# Altium footprint library bzq2142.PcbLib: 22 footprints (part 1 of 2)
Each footprint in its own frame and in the unit in brackets; x right, y up, seen from the top. Pads: shape width x height; smd on the part's side, far side on the other; paste and mask are expansions set on the pad; w line width, h text height; cw(c..) or ccw(c..) is an arc to the next point about the centre after c.
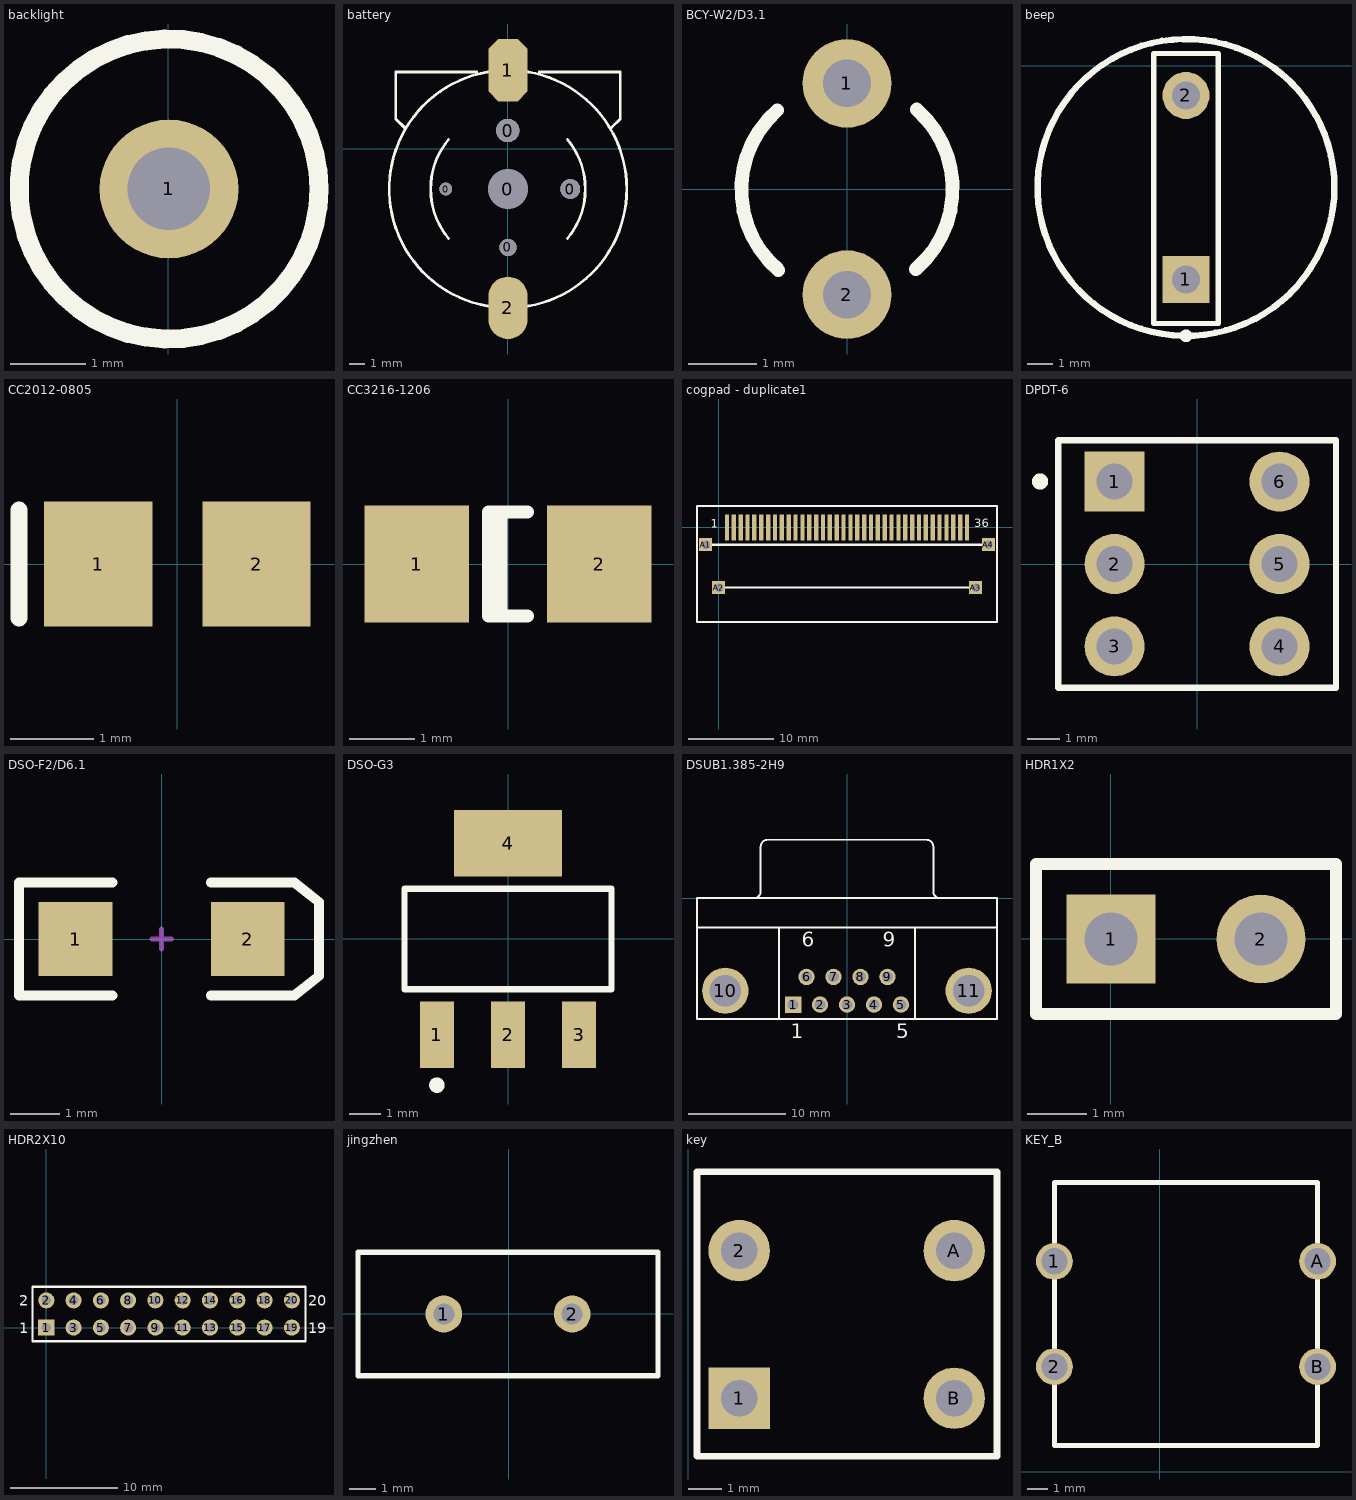
[diagram p0: the footprints below, top view; thin cyan lines are the x and y axes]

## backlight [mm]
height 6.35
pads (1):
  round 1.85 hole 1.1: 1(0.009,2.5)
Top Overlay:
  circle w0.254: c0.009,2.5 r2

## battery [mm]
pads (7):
  round 0.813 hole 0.813: 0(-3.979,-2.576)
  round 1.5 hole 1.5: 0(-0.016,1.174)
  round 1.1 hole 1.1: 0(0.009,-6.326)
  round 2.54 hole 2.54: 0(0.009,-2.576)
  round 1.27 hole 1.27: 0(3.997,-2.576)
  oct 2.5x4 smd: 1(0.009,5.044)
  oval 2.5x4 smd: 2(0.009,-10.196)
Top Overlay:
  lines w0.178: -6.616,1.349 -7.191,1.924 -7.191,4.924 -1.991,4.924 ; -3.803,-5.748 cw(c0.009,-2.576) -3.801,0.599 ; -0.824,-10.15 cw(c0.009,-2.576) -0.824,4.999 ; 0.842,-10.15 ccw(c0.009,-2.576) 7.629,-2.576 ccw(c0.009,-2.576) 0.842,4.999 ; 2.009,4.924 7.209,4.924 7.209,1.924 6.609,1.324 ; 3.821,-5.748 ccw(c0.009,-2.576) 3.824,0.594

## BCY-W2/D3.1 [mm] "Crystal, Thru-Hole; 2 Leads; Body 3.1 x 8.2 mm (Dia.xH)"
pads (2):
  round 1.3 hole 0.7: 1(0,1.55) 2(0,-1.55)
Top Overlay:
  lines w0.2: -1.022,1.155 ccw(c0,-0.01) -1.006,-1.189 ; 1.006,-1.179 ccw(c0,0) 1.022,1.165

## beep [mm]
height 9
pads (2):
  rect 1.85x1.85 hole 1.1: 1(14.213,-8.409)
  round 1.85 hole 1.1: 2(14.213,-1.17)
Top Overlay:
  circle w0.254: c14.213,-4.79 r5.842
  circle w0.25: c14.214,-10.63 r0.125
  lines w0.2: 12.943,-10.149 15.483,-10.149 15.483,-1.589 15.483,0.481 12.943,0.481 12.943,-1.589 12.943,-10.149

## CC2012-0805 [mm] "Chip Capacitor; Body 2.0 x 1.2 mm (LxW typ)"
height 1.1
pads (2):
  rect 1.3x1.5 smd: 1(-0.95,0) 2(0.95,0)
Top Overlay:
  lines w0.2: -1.9,-0.65 -1.9,0.65

## CC3216-1206 [mm] "Chip Capacitor; Body 3.2 x 1.6 mm (LxW typ)"
height 1.35
pads (2):
  rect 1.6x1.8 smd: 1(-1.4,0) 2(1.4,0)
Top Overlay:
  lines w0.2: -0.11,-0.8 -0.11,0.8 ; 0.3,-0.8 -0.3,-0.8 -0.3,0.8 0.3,0.8

## cogpad - duplicate1 [mm]
pads (40):
  rect 0.5x3 smd: 1(0.942,-0.045) 2(1.742,-0.045) 3(2.542,-0.045) 4(3.342,-0.045) 5(4.142,-0.045) 6(4.942,-0.045) 7(5.742,-0.045) 8(6.542,-0.045) 9(7.342,-0.045) 10(8.142,-0.045) 11(8.942,-0.045) 12(9.742,-0.045) 13(10.542,-0.045) 14(11.342,-0.045) 15(12.142,-0.045) 16(12.942,-0.045) 17(13.742,-0.045) 18(14.542,-0.045) 19(15.342,-0.045) 20(16.142,-0.045) 21(16.942,-0.045) 22(17.742,-0.045) 23(18.542,-0.045) 24(19.342,-0.045) 25(20.142,-0.045) 26(20.942,-0.045) 27(21.742,-0.045) 28(22.542,-0.045) 29(23.342,-0.045) 30(24.142,-0.045) 31(24.942,-0.045) 32(25.742,-0.045) 33(26.542,-0.045) 34(27.342,-0.045) 35(28.142,-0.045) 36(28.942,-0.045)
  rect 1.524x1.524 hole 1: A1(-1.553,-2.044) A2(-0.04,-7.044) A3(29.96,-7.044) A4(31.447,-2.044)
Top Overlay:
  lines w0.254: -1.553,-2.044 31.447,-2.044 ; -0.04,-7.044 29.96,-7.044 ; -2.553,-11.044 32.444,-11.044 32.444,2.456 29.946,2.456 29.193,2.456 0.689,2.456 -0.276,2.456 -2.553,2.456 -2.553,-11.044
  text "1" at -0.925,-0.04 h1
  text "36" at 29.801,0.02 h1

## DPDT-6 [mm] "Double-Pole, Double-Throw Switch; 6 Leads"
height 1.5
pads (6):
  rect 1.85x1.85 hole 1.1: 1(-2.54,2.54)
  round 1.85 hole 1.1: 2(-2.54,0) 3(-2.54,-2.54) 4(2.54,-2.54) 5(2.54,0) 6(2.54,2.54)
Top Overlay:
  circle w0.25: c-4.836,2.541 r0.125
  lines w0.2: -4.28,-3.81 4.28,-3.81 4.28,3.81 -4.28,3.81 -4.28,-3.81

## DSO-F2/D6.1 [mm] "SMT LED; 2 Flat Leads"
pads (2):
  rect 1.5x1.5 smd: 1(-1.75,0) 2(1.75,0)
Top Overlay:
  lines w0.2: -1,-1.15 -2.9,-1.15 -2.9,1.15 -1,1.15 ; 1,-1.15 2.7,-1.15 3.2,-0.75 3.2,0.75 2.7,1.15 1,1.15
Mechanical 1:
  lines w0.1: -0.2,0 0.2,0 ; 0,-0.2 0,0.2

## DSO-G3 [mm] "SOT-223/SC-73; 4 Leads; Body 6.7 x 7.3 mm, inc. leads (LxW max)"
pads (4):
  rect 1.1x2.15 smd: 1(-2.3,-3.1) 2(0,-3.1) 3(2.3,-3.1)
  rect 3.5x2.15 smd: 4(0,3.1)
Top Overlay:
  circle w0.25: c-2.3,-4.725 r0.125
  lines w0.2: -3.35,-1.625 3.35,-1.625 3.35,1.625 -3.35,1.625 -3.35,-1.625

## DSUB1.385-2H9 [mm] "Connector; D Subminiature; 9 Position; Right Angle; Pitch 1.385 mm"
height 6.35
pads (11):
  rect 1.69x1.69 hole 1.09: 1(-5.54,-10.92)
  round 1.69 hole 1.09: 2(-2.77,-10.92) 3(0,-10.92) 4(2.77,-10.92) 5(5.54,-10.92) 6(-4.155,-8.08) 7(-1.385,-8.08) 8(1.385,-8.08) 9(4.155,-8.08)
  round 4.76 hole 3.26: 10(-12.495,-9.5) 11(12.495,-9.5)
Top Overlay:
  lines w0.2: -15.4,-3 15.4,-3 ; -9.56,0.005 ccw(c-9.56,0.7) -8.865,0.7 -8.865,5.3 ; -8.86,5.305 cw(c-8.165,5.305) -8.165,6 8.165,6 cw(c8.165,5.305) 8.86,5.305 ; -7,-12.4 -7,-3 ; 7,-12.4 7,-3 ; 8.865,5.3 8.865,0.7 ccw(c9.56,0.7) 9.56,0.005 ; -15.4,-12.4 -15.4,0 15.4,0 15.4,-12.4 -15.4,-12.4
  text "1" at -5.79,-14.375 h1.5
  text "5" at 5.04,-14.375 h1.5
  text "9" at 3.655,-4.975 h1.5
  text "6" at -4.655,-4.975 h1.5

## HDR1X2 [mm] "Connector; Header; 2 Position"
pads (2):
  rect 1.5x1.5 hole 0.9: 1(0,0)
  round 1.5 hole 0.9: 2(2.54,0)
Top Overlay:
  lines w0.2: -1.27,-1.27 3.81,-1.27 3.81,1.27 -1.27,1.27 -1.27,-1.27

## HDR2X10 [mm] "Connector; Header; 10x2 Position"
pads (20):
  rect 1.5x1.5 hole 0.9: 1(0,0)
  round 1.5 hole 0.9: 2(0,2.54) 3(2.54,0) 4(2.54,2.54) 5(5.08,0) 6(5.08,2.54) 7(7.62,0) 8(7.62,2.54) 9(10.16,0) 10(10.16,2.54) 11(12.7,0) 12(12.7,2.54) 13(15.24,0) 14(15.24,2.54) 15(17.78,0) 16(17.78,2.54) 17(20.32,0) 18(20.32,2.54) 19(22.86,0) 20(22.86,2.54)
Top Overlay:
  lines w0.2: -1.27,-1.27 -1.27,3.81 0.635,3.81 24.13,3.81 24.13,-1.27 0.635,-1.27 -1.27,-1.27
  text "2" at -2.54,2.032 h1
  text "1" at -2.54,-0.508 h1
  text "19" at 24.384,-0.508 h1
  text "20" at 24.384,2.032 h1

## jingzhen [mm]
height 4
pads (2):
  round 1.4 hole 0.8: 1(-2.476,-0.008) 2(2.404,-0.008)
Top Overlay:
  lines w0.2: -5.736,-2.358 -5.736,2.342 5.664,2.342 5.664,-2.358 -5.736,-2.358

## key [mm]
pads (4):
  rect 1.85x1.85 hole 1.1: 1(1.537,8.02)
  round 1.85 hole 1.1: 2(1.537,12.465) A(8.014,12.465) B(8.014,8.02)
Top Overlay:
  lines w0.2: 0.267,6.28 9.3,6.273 9.3,14.839 0.267,14.84 0.267,6.28

## KEY_B [mil]
pads (4):
  round 70 hole 50: 1(-200,400) 2(-200,200) A(300,400) B(300,200)
Top Overlay:
  lines w10: -200,50 -200,550 300,550 300,50 -200,50